# Altium footprint library MOLX-22-28-4033_V.PcbLib: 1 footprints
Each footprint in its own frame and in the unit in brackets; x right, y up, seen from the top. Pads: shape width x height; smd on the part's side, far side on the other; paste and mask are expansions set on the pad; w line width, h text height; cw(c..) or ccw(c..) is an arc to the next point about the centre after c.
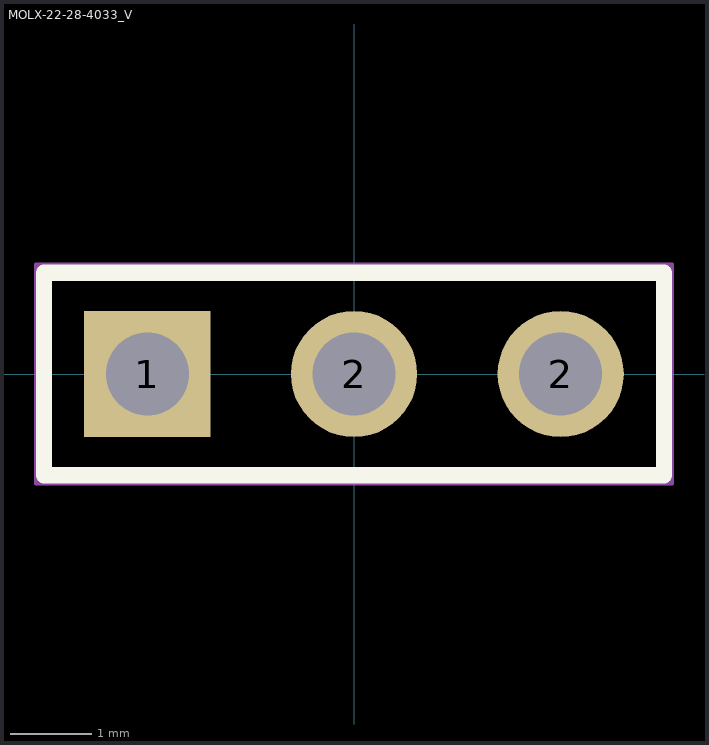
[diagram p0: the footprint, top view; thin cyan lines are the x and y axes]

## MOLX-22-28-4033_V [mm]
height 8.38
pads (3):
  rect 1.55x1.55 hole 1.02: 1(-2.54,0)
  round 1.55 hole 1.02: 2(0,0) 2(2.54,0)
Top Overlay:
  lines w0.2: -3.81,-1.245 3.81,-1.245 3.81,1.245 -3.81,1.245 -3.81,-1.245
Mechanical 13:
  lines w0.1: -3.81,-1.245 3.81,-1.245 3.81,1.245 -3.81,1.245 -3.81,-1.245
Mechanical 15:
  lines w0.05: -3.91,-1.345 -3.91,1.345 3.91,1.345 3.91,-1.345 -3.91,-1.345
  lines w0.1: -0.5,0 0.5,0 ; 0,-0.5 0,0.5
3D body "022284033.stp": height 8.38, standoff -3.17, extent -3.81,-1.244 3.81,1.245